# Altium schematic symbol library OV7670.SchLib: 1 symbol
Pins are listed as number, name and electrical type; pins without a type are passive.

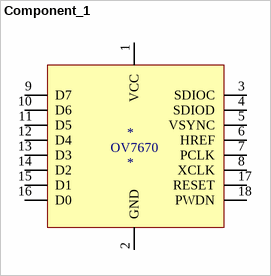
[diagram p0: symbol Component_1]

## Component_1
designator *
pins: 1 VCC, 2 GND, 3 SDIOC, 4 SDIOD, 5 VSYNC, 6 HREF, 7 PCLK, 8 XCLK, 9 D7, 10 D6, 11 D5, 12 D4, 13 D3, 14 D2, 15 D1, 16 D0, 17 RESET, 18 PWDN
text: OV7670